# EAGLE library part TPS63030 (library myLib)
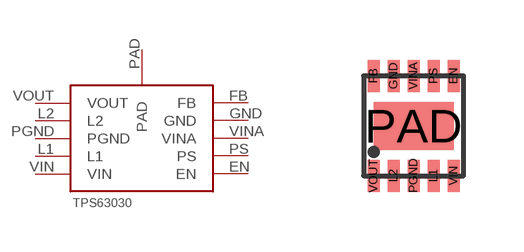
[diagram p5: symbol with the pads of TPS63030; footprint TPS63030]

Designator prefix -

## TPS63030  [TPS63030]
EN  EN
FB  FB
GND  GND
L1  L1
L2  L2
PAD  PAD
PGND  PGND
PS  PS
VIN  VIN
VINA  VINA
VOUT  VOUT

## Footprint TPS63030 (pad centres in mm)
smd 0.3 x 0.8: EN 1,1.25; FB -1,1.25; GND -0.5,1.25; L1 0.5,-1.25; L2 -0.5,-1.25; PGND 0,-1.25; PS 0.5,1.25; VIN 1,-1.25; VINA 0,1.25; VOUT -1,-1.25
smd 2 x 1.2: PAD 0,0